# Altium schematic symbol library gas-vacuum-tubes.SchLib: 1 symbol
Pins are listed as number, name and electrical type; pins without a type are passive.

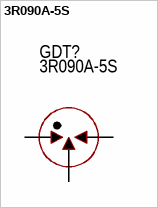
[diagram p0: symbol 3R090A-5S]

## 3R090A-5S
designator GDT?  PartNumber: 3R090A-5S
±20% 5kA 90V 3poles SMD 5x7.5mm GDT; Manufacturer: RUILON (Shenzhen Ruilongyuan Elec); ValueManufacturerPartNumber: GDT, 5kA, 90V; HelpURL: https://www.lcsc.com/product-detail/Gas-Discharge-Tube-Arresters-GDT_RUILON-Shenzhen-Ruilongyuan-Elec-3R090A-5S_C18342.html; ComponentType: GDT; ImpulseDischargeCurrent: 5kA; Voltage: 90V
footprint GDT: 3P5X7SMD
pins: 1, 2, 3